# EAGLE library part EBC12DCWN (library a26board)
EBC12DCWN Dual row female edge connector 0.1" spacing 0.2" between rows
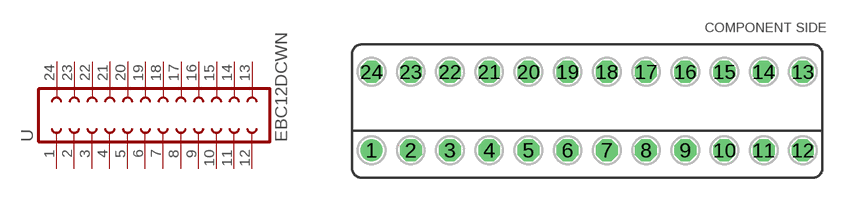
[diagram p3: symbol with the pads of EBC12DCWN; footprint EBC12DCWN]

Designator prefix -

## EBC12DCWN  [EBC12DCWN]
1  1  pas
2  2  pas
3  3  pas
4  4  pas
5  5  pas
6  6  pas
7  7  pas
8  8  pas
9  9  pas
10  10  pas
11  11  pas
12  12  pas
13  13  pas
14  14  pas
15  15  pas
16  16  pas
17  17  pas
18  18  pas
19  19  pas
20  20  pas
21  21  pas
22  22  pas
23  23  pas
24  24  pas

## Footprint EBC12DCWN (pad centres in mm)
FEMALE HEADER
drill 0.914: 1 -13.97,-2.54
drill 0.914 octagon: 2 -11.43,-2.54; 3 -8.89,-2.54; 4 -6.35,-2.54; 5 -3.81,-2.54; 6 -1.27,-2.54; 7 1.27,-2.54; 8 3.81,-2.54; 9 6.35,-2.54; 10 8.89,-2.54; 11 11.43,-2.54; 12 13.97,-2.54; 13 13.97,2.54; 14 11.43,2.54; 15 8.89,2.54; 16 6.35,2.54; 17 3.81,2.54; 18 1.27,2.54; 19 -1.27,2.54; 20 -3.81,2.54; 21 -6.35,2.54; 22 -8.89,2.54; 23 -11.43,2.54; 24 -13.97,2.54